# Altium footprint library 8-WDFN Exposed Pad.PcbLib: 1 footprints
Each footprint in its own frame and in the unit in brackets; x right, y up, seen from the top. Pads: shape width x height; smd on the part's side, far side on the other; paste and mask are expansions set on the pad; w line width, h text height; cw(c..) or ccw(c..) is an arc to the next point about the centre after c.
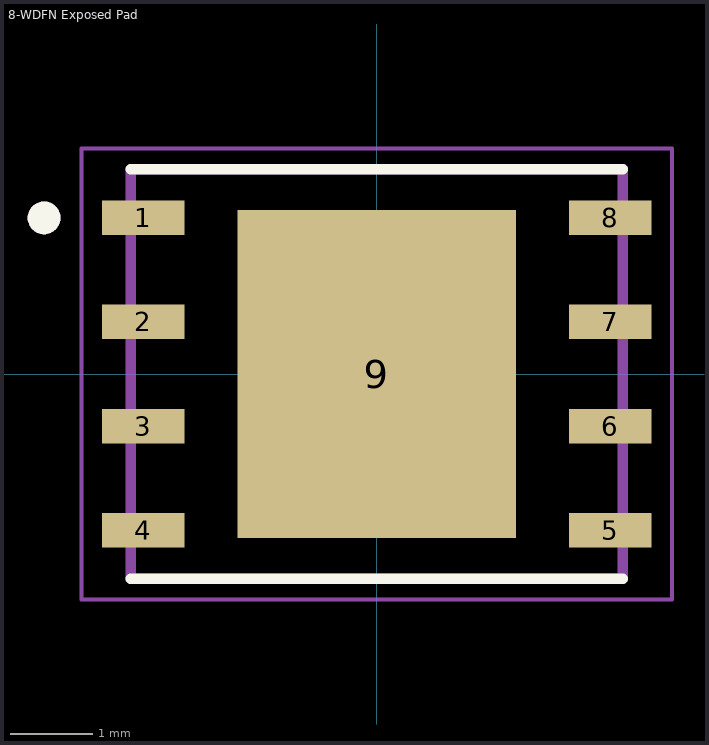
[diagram p0: the footprint, top view; thin cyan lines are the x and y axes]

## 8-WDFN Exposed Pad [mm]
pads (9):
  rect 1.01x0.42 smd: 1(-2.85,1.905) 2(-2.85,0.635) 3(-2.85,-0.635) 4(-2.85,-1.905) 5(2.85,-1.905) 6(2.85,-0.635) 7(2.85,0.635) 8(2.85,1.905)
  rect 3.4x4 smd: 9(0,0)
Top Overlay:
  circle w0.2: c-4.06,1.905 r0.1
  lines w0.127: -3,-2.5 3,-2.5 ; -3,2.5 3,2.5
Top Paste:
  region: -1.08,1.26 1.08,1.26 1.08,-1.26 -1.08,-1.26
Mechanical 4:
  circle w0.2: c-4.06,1.905 r0.1
  circle w0.2: c-4.06,1.905 r0.1
  lines w0.127: -3,-2.5 3,-2.5 ; -3,-2.5 -3,2.5 ; -3,-2.5 3,-2.5 ; -3,-2.5 -3,2.5 ; -3,2.5 3,2.5 ; -3,2.5 3,2.5 ; 3,-2.5 3,2.5 ; 3,-2.5 3,2.5
Mechanical 16:
  lines w0.05: -3.605,-2.75 3.605,-2.75 3.605,2.75 -3.605,2.75 -3.605,-2.75